# Altium footprint library IC_SMD_BGA.PCBLIB: 109 footprints (part 5 of 14)
Each footprint in its own frame and in the unit in brackets; x right, y up, seen from the top. Pads: shape width x height; smd on the part's side, far side on the other; paste and mask are expansions set on the pad; w line width, h text height; cw(c..) or ccw(c..) is an arc to the next point about the centre after c.
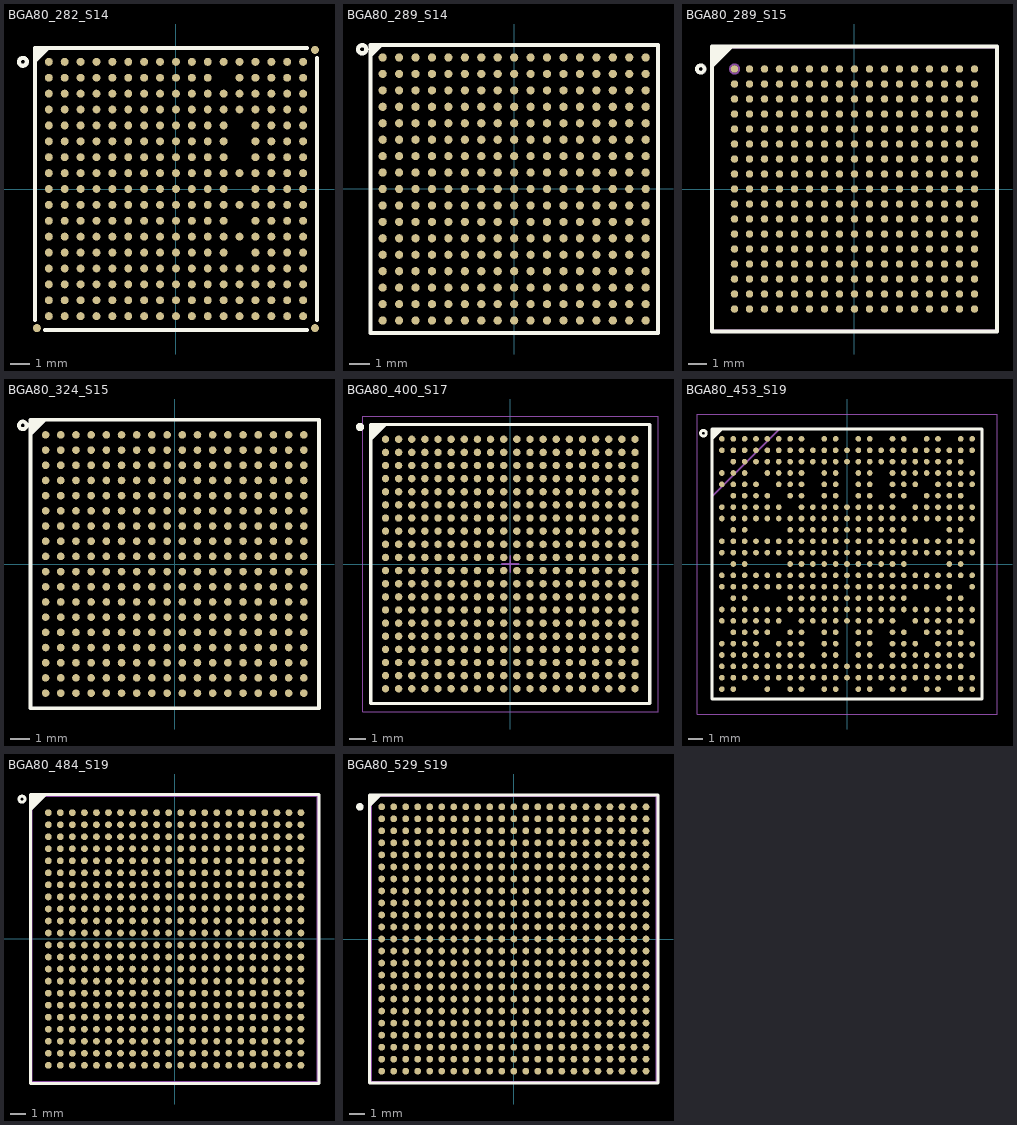
[diagram p4: the footprints below, top view; thin cyan lines are the x and y axes]

## BGA80_282_S14 [mm] "TFBGA282, 0.8mm pitch, 14x14x1.3mm"
height 1.3
pads (285):
  rrect100% 0.4x0.4 smd paste+0 mask+0.075: A1(-6.4,6.4) A2(-5.6,6.4) A3(-4.8,6.4) A4(-4,6.4) A5(-3.2,6.4) A6(-2.4,6.4) A7(-1.6,6.4) A8(-0.8,6.4) A9(0,6.4) A10(0.8,6.4) A11(1.6,6.4) A12(2.4,6.4) A13(3.2,6.4) A14(4,6.4) A15(4.8,6.4) A16(5.6,6.4) A17(6.4,6.4) B1(-6.4,5.6) B2(-5.6,5.6) B3(-4.8,5.6) B4(-4,5.6) B5(-3.2,5.6) B6(-2.4,5.6) B7(-1.6,5.6) B8(-0.8,5.6) B9(0,5.6) B10(0.8,5.6) B11(1.6,5.6) B13(3.2,5.6) B14(4,5.6) B15(4.8,5.6) B16(5.6,5.6) B17(6.4,5.6) C1(-6.4,4.8) C2(-5.6,4.8) C3(-4.8,4.8) C4(-4,4.8) C5(-3.2,4.8) C6(-2.4,4.8) C7(-1.6,4.8) C8(-0.8,4.8) C9(0,4.8) C10(0.8,4.8) C11(1.6,4.8) C12(2.4,4.8) C13(3.2,4.8) C14(4,4.8) C15(4.8,4.8) C16(5.6,4.8) C17(6.4,4.8) D1(-6.4,4) D2(-5.6,4) D3(-4.8,4) D4(-4,4) D5(-3.2,4) D6(-2.4,4) D7(-1.6,4) D8(-0.8,4) D9(0,4) D10(0.8,4) D11(1.6,4) D12(2.4,4) D13(3.2,4) D14(4,4) D15(4.8,4) D16(5.6,4) D17(6.4,4) E1(-6.4,3.2) E2(-5.6,3.2) E3(-4.8,3.2) E4(-4,3.2) E5(-3.2,3.2) E6(-2.4,3.2) E7(-1.6,3.2) E8(-0.8,3.2) E9(0,3.2) E10(0.8,3.2) E11(1.6,3.2) E12(2.4,3.2) E14(4,3.2) E15(4.8,3.2) E16(5.6,3.2) E17(6.4,3.2) F1(-6.4,2.4) F2(-5.6,2.4) F3(-4.8,2.4) F4(-4,2.4) F5(-3.2,2.4) F6(-2.4,2.4) F7(-1.6,2.4) F8(-0.8,2.4) F9(0,2.4) F10(0.8,2.4) F11(1.6,2.4) F12(2.4,2.4) F14(4,2.4) F15(4.8,2.4) F16(5.6,2.4) F17(6.4,2.4) G1(-6.4,1.6) G2(-5.6,1.6) G3(-4.8,1.6) G4(-4,1.6) G5(-3.2,1.6) G6(-2.4,1.6) G7(-1.6,1.6) G8(-0.8,1.6) G9(0,1.6) G10(0.8,1.6) G11(1.6,1.6) G12(2.4,1.6) G14(4,1.6) G15(4.8,1.6) G16(5.6,1.6) G17(6.4,1.6) H1(-6.4,0.8) H2(-5.6,0.8) H3(-4.8,0.8) H4(-4,0.8) H5(-3.2,0.8) H6(-2.4,0.8) H7(-1.6,0.8) H8(-0.8,0.8) H9(0,0.8) H10(0.8,0.8) H11(1.6,0.8) H12(2.4,0.8) H13(3.2,0.8) H14(4,0.8) H15(4.8,0.8) H16(5.6,0.8) H17(6.4,0.8) J1(-6.4,0) J2(-5.6,0) J3(-4.8,0) J4(-4,0) J5(-3.2,0) J6(-2.4,0) J7(-1.6,0) J8(-0.8,0) J9(0,0) J10(0.8,0) J11(1.6,0) J12(2.4,0) J14(4,0) J15(4.8,0) J16(5.6,0) J17(6.4,0) K1(-6.4,-0.8) K2(-5.6,-0.8) K3(-4.8,-0.8) K4(-4,-0.8) K5(-3.2,-0.8) K6(-2.4,-0.8) K7(-1.6,-0.8) K8(-0.8,-0.8) K9(0,-0.8) K10(0.8,-0.8) K11(1.6,-0.8) K12(2.4,-0.8) K13(3.2,-0.8) K14(4,-0.8) K15(4.8,-0.8) K16(5.6,-0.8) K17(6.4,-0.8) L1(-6.4,-1.6) L2(-5.6,-1.6) L3(-4.8,-1.6) L4(-4,-1.6) L5(-3.2,-1.6) L6(-2.4,-1.6) L7(-1.6,-1.6) L8(-0.8,-1.6) L9(0,-1.6) L10(0.8,-1.6) L11(1.6,-1.6) L12(2.4,-1.6) L14(4,-1.6) L15(4.8,-1.6) L16(5.6,-1.6) L17(6.4,-1.6) M1(-6.4,-2.4) M2(-5.6,-2.4) M3(-4.8,-2.4) M4(-4,-2.4) M5(-3.2,-2.4) M6(-2.4,-2.4) M7(-1.6,-2.4) M8(-0.8,-2.4) M9(0,-2.4) M10(0.8,-2.4) M11(1.6,-2.4) M12(2.4,-2.4) M13(3.2,-2.4) M14(4,-2.4) M15(4.8,-2.4) M16(5.6,-2.4) M17(6.4,-2.4) N1(-6.4,-3.2) N2(-5.6,-3.2) N3(-4.8,-3.2) N4(-4,-3.2) N5(-3.2,-3.2) N6(-2.4,-3.2) N7(-1.6,-3.2) N8(-0.8,-3.2) N9(0,-3.2) N10(0.8,-3.2) N11(1.6,-3.2) N12(2.4,-3.2) N14(4,-3.2) N15(4.8,-3.2) N16(5.6,-3.2) N17(6.4,-3.2) P1(-6.4,-4) P2(-5.6,-4) P3(-4.8,-4) P4(-4,-4) P5(-3.2,-4) P6(-2.4,-4) P7(-1.6,-4) P8(-0.8,-4) P9(0,-4) P10(0.8,-4) P11(1.6,-4) P12(2.4,-4) P13(3.2,-4) P14(4,-4) P15(4.8,-4) P16(5.6,-4) P17(6.4,-4) R1(-6.4,-4.8) R2(-5.6,-4.8) R3(-4.8,-4.8) R4(-4,-4.8) R5(-3.2,-4.8) R6(-2.4,-4.8) R7(-1.6,-4.8) R8(-0.8,-4.8) R9(0,-4.8) R10(0.8,-4.8) R11(1.6,-4.8) R12(2.4,-4.8) R13(3.2,-4.8) R14(4,-4.8) R15(4.8,-4.8) R16(5.6,-4.8) R17(6.4,-4.8) T1(-6.4,-5.6) T2(-5.6,-5.6) T3(-4.8,-5.6) T4(-4,-5.6) T5(-3.2,-5.6) T6(-2.4,-5.6) T7(-1.6,-5.6) T8(-0.8,-5.6) T9(0,-5.6) T10(0.8,-5.6) T11(1.6,-5.6) T12(2.4,-5.6) T13(3.2,-5.6) T14(4,-5.6) T15(4.8,-5.6) T16(5.6,-5.6) T17(6.4,-5.6) U1(-6.4,-6.4) U2(-5.6,-6.4) U3(-4.8,-6.4) U4(-4,-6.4) U5(-3.2,-6.4) U6(-2.4,-6.4) U7(-1.6,-6.4) U8(-0.8,-6.4) U9(0,-6.4) U10(0.8,-6.4) U11(1.6,-6.4) U12(2.4,-6.4) U13(3.2,-6.4) U14(4,-6.4) U15(4.8,-6.4) U16(5.6,-6.4) U17(6.4,-6.4) ""(-7,-7) ""(7,-7) ""(7,7)
TopOverlay:
  circle w0.2: c-7.7,6.4 r0.2
  region: -7.1,7.1 -6.3,7.1 -7.1,6.3
  lines w0.2: -7.1,-6.6 -7.1,7.1 6.6,7.1 ; -6.6,-7.1 6.6,-7.1 ; 7.1,-6.6 7.1,6.6
TopPaste:
  drawing of 282 lines, arcs and shapes, not listed
3D body: height 1.3, standoff 0.25, extent -7,-7 7,7

## BGA80_289_S14 [mm] "BGA, 289-Leads, Body 14.00x14.00mmx1.20mm, Pitch 0.80mm"
height 1.2
pads (289):
  round 0.4 smd: A1(-6.4,6.4) A2(-5.6,6.4) A3(-4.8,6.4) A4(-4,6.4) A5(-3.2,6.4) A6(-2.4,6.4) A7(-1.6,6.4) A8(-0.8,6.4) A9(0,6.4) A10(0.8,6.4) A11(1.6,6.4) A12(2.4,6.4) A13(3.2,6.4) A14(4,6.4) A15(4.8,6.4) A16(5.6,6.4) A17(6.4,6.4) B1(-6.4,5.6) B2(-5.6,5.6) B3(-4.8,5.6) B4(-4,5.6) B5(-3.2,5.6) B6(-2.4,5.6) B7(-1.6,5.6) B8(-0.8,5.6) B9(0,5.6) B10(0.8,5.6) B11(1.6,5.6) B12(2.4,5.6) B13(3.2,5.6) B14(4,5.6) B15(4.8,5.6) B16(5.6,5.6) B17(6.4,5.6) C1(-6.4,4.8) C2(-5.6,4.8) C3(-4.8,4.8) C4(-4,4.8) C5(-3.2,4.8) C6(-2.4,4.8) C7(-1.6,4.8) C8(-0.8,4.8) C9(0,4.8) C10(0.8,4.8) C11(1.6,4.8) C12(2.4,4.8) C13(3.2,4.8) C14(4,4.8) C15(4.8,4.8) C16(5.6,4.8) C17(6.4,4.8) D1(-6.4,4) D2(-5.6,4) D3(-4.8,4) D4(-4,4) D5(-3.2,4) D6(-2.4,4) D7(-1.6,4) D8(-0.8,4) D9(0,4) D10(0.8,4) D11(1.6,4) D12(2.4,4) D13(3.2,4) D14(4,4) D15(4.8,4) D16(5.6,4) D17(6.4,4) E1(-6.4,3.2) E2(-5.6,3.2) E3(-4.8,3.2) E4(-4,3.2) E5(-3.2,3.2) E6(-2.4,3.2) E7(-1.6,3.2) E8(-0.8,3.2) E9(0,3.2) E10(0.8,3.2) E11(1.6,3.2) E12(2.4,3.2) E13(3.2,3.2) E14(4,3.2) E15(4.8,3.2) E16(5.6,3.2) E17(6.4,3.2) F1(-6.4,2.4) F2(-5.6,2.4) F3(-4.8,2.4) F4(-4,2.4) F5(-3.2,2.4) F6(-2.4,2.4) F7(-1.6,2.4) F8(-0.8,2.4) F9(0,2.4) F10(0.8,2.4) F11(1.6,2.4) F12(2.4,2.4) F13(3.2,2.4) F14(4,2.4) F15(4.8,2.4) F16(5.6,2.4) F17(6.4,2.4) G1(-6.4,1.6) G2(-5.6,1.6) G3(-4.8,1.6) G4(-4,1.6) G5(-3.2,1.6) G6(-2.4,1.6) G7(-1.6,1.6) G8(-0.8,1.6) G9(0,1.6) G10(0.8,1.6) G11(1.6,1.6) G12(2.4,1.6) G13(3.2,1.6) G14(4,1.6) G15(4.8,1.6) G16(5.6,1.6) G17(6.4,1.6) H1(-6.4,0.8) H2(-5.6,0.8) H3(-4.8,0.8) H4(-4,0.8) H5(-3.2,0.8) H6(-2.4,0.8) H7(-1.6,0.8) H8(-0.8,0.8) H9(0,0.8) H10(0.8,0.8) H11(1.6,0.8) H12(2.4,0.8) H13(3.2,0.8) H14(4,0.8) H15(4.8,0.8) H16(5.6,0.8) H17(6.4,0.8) J1(-6.4,0) J2(-5.6,0) J3(-4.8,0) J4(-4,0) J5(-3.2,0) J6(-2.4,0) J7(-1.6,0) J8(-0.8,0) J9(0,0) J10(0.8,0) J11(1.6,0) J12(2.4,0) J13(3.2,0) J14(4,0) J15(4.8,0) J16(5.6,0) J17(6.4,0) K1(-6.4,-0.8) K2(-5.6,-0.8) K3(-4.8,-0.8) K4(-4,-0.8) K5(-3.2,-0.8) K6(-2.4,-0.8) K7(-1.6,-0.8) K8(-0.8,-0.8) K9(0,-0.8) K10(0.8,-0.8) K11(1.6,-0.8) K12(2.4,-0.8) K13(3.2,-0.8) K14(4,-0.8) K15(4.8,-0.8) K16(5.6,-0.8) K17(6.4,-0.8) L1(-6.4,-1.6) L2(-5.6,-1.6) L3(-4.8,-1.6) L4(-4,-1.6) L5(-3.2,-1.6) L6(-2.4,-1.6) L7(-1.6,-1.6) L8(-0.8,-1.6) L9(0,-1.6) L10(0.8,-1.6) L11(1.6,-1.6) L12(2.4,-1.6) L13(3.2,-1.6) L14(4,-1.6) L15(4.8,-1.6) L16(5.6,-1.6) L17(6.4,-1.6) M1(-6.4,-2.4) M2(-5.6,-2.4) M3(-4.8,-2.4) M4(-4,-2.4) M5(-3.2,-2.4) M6(-2.4,-2.4) M7(-1.6,-2.4) M8(-0.8,-2.4) M9(0,-2.4) M10(0.8,-2.4) M11(1.6,-2.4) M12(2.4,-2.4) M13(3.2,-2.4) M14(4,-2.4) M15(4.8,-2.4) M16(5.6,-2.4) M17(6.4,-2.4) N1(-6.4,-3.2) N2(-5.6,-3.2) N3(-4.8,-3.2) N4(-4,-3.2) N5(-3.2,-3.2) N6(-2.4,-3.2) N7(-1.6,-3.2) N8(-0.8,-3.2) N9(0,-3.2) N10(0.8,-3.2) N11(1.6,-3.2) N12(2.4,-3.2) N13(3.2,-3.2) N14(4,-3.2) N15(4.8,-3.2) N16(5.6,-3.2) N17(6.4,-3.2) P1(-6.4,-4) P2(-5.6,-4) P3(-4.8,-4) P4(-4,-4) P5(-3.2,-4) P6(-2.4,-4) P7(-1.6,-4) P8(-0.8,-4) P9(0,-4) P10(0.8,-4) P11(1.6,-4) P12(2.4,-4) P13(3.2,-4) P14(4,-4) P15(4.8,-4) P16(5.6,-4) P17(6.4,-4) R1(-6.4,-4.8) R2(-5.6,-4.8) R3(-4.8,-4.8) R4(-4,-4.8) R5(-3.2,-4.8) R6(-2.4,-4.8) R7(-1.6,-4.8) R8(-0.8,-4.8) R9(0,-4.8) R10(0.8,-4.8) R11(1.6,-4.8) R12(2.4,-4.8) R13(3.2,-4.8) R14(4,-4.8) R15(4.8,-4.8) R16(5.6,-4.8) R17(6.4,-4.8) T1(-6.4,-5.6) T2(-5.6,-5.6) T3(-4.8,-5.6) T4(-4,-5.6) T5(-3.2,-5.6) T6(-2.4,-5.6) T7(-1.6,-5.6) T8(-0.8,-5.6) T9(0,-5.6) T10(0.8,-5.6) T11(1.6,-5.6) T12(2.4,-5.6) T13(3.2,-5.6) T14(4,-5.6) T15(4.8,-5.6) T16(5.6,-5.6) T17(6.4,-5.6) U1(-6.4,-6.4) U2(-5.6,-6.4) U3(-4.8,-6.4) U4(-4,-6.4) U5(-3.2,-6.4) U6(-2.4,-6.4) U7(-1.6,-6.4) U8(-0.8,-6.4) U9(0,-6.4) U10(0.8,-6.4) U11(1.6,-6.4) U12(2.4,-6.4) U13(3.2,-6.4) U14(4,-6.4) U15(4.8,-6.4) U16(5.6,-6.4) U17(6.4,-6.4)
TopOverlay:
  circle w0.2: c-7.4,6.8 r0.2
  region: -6.5,7 -7,6.5 -7,7
  lines w0.2: -7,6.5 -6.528,6.972 ; -7,-7 7,-7 7,7 -7,7 -7,-7
Mechanical13:
  lines w0.1: -7,-7 7,-7 7,7 -7,7 -7,-7
3D body: height 1.2, standoff 0.1, extent -7,-7 7,7

## BGA80_289_S15 [mm] "nFBGA ZBV ZAV, N289-Leads, Body 15x15mm, Pitch 0.8mm"
height 1.8
pads (289):
  round 0.4 smd mask+0.05: A1(-6.4,6.4) A2(-5.6,6.4) A3(-4.8,6.4) A4(-4,6.4) A5(-3.2,6.4) A6(-2.4,6.4) A7(-1.6,6.4) A8(-0.8,6.4) A9(0,6.4) A10(0.8,6.4) A11(1.6,6.4) A12(2.4,6.4) A13(3.2,6.4) A14(4,6.4) A15(4.8,6.4) A16(5.6,6.4) A17(6.4,6.4) B1(-6.4,5.6) B2(-5.6,5.6) B3(-4.8,5.6) B4(-4,5.6) B5(-3.2,5.6) B6(-2.4,5.6) B7(-1.6,5.6) B8(-0.8,5.6) B9(0,5.6) B10(0.8,5.6) B11(1.6,5.6) B12(2.4,5.6) B13(3.2,5.6) B14(4,5.6) B15(4.8,5.6) B16(5.6,5.6) B17(6.4,5.6) C1(-6.4,4.8) C2(-5.6,4.8) C3(-4.8,4.8) C4(-4,4.8) C5(-3.2,4.8) C6(-2.4,4.8) C7(-1.6,4.8) C8(-0.8,4.8) C9(0,4.8) C10(0.8,4.8) C11(1.6,4.8) C12(2.4,4.8) C13(3.2,4.8) C14(4,4.8) C15(4.8,4.8) C16(5.6,4.8) C17(6.4,4.8) D1(-6.4,4) D2(-5.6,4) D3(-4.8,4) D4(-4,4) D5(-3.2,4) D6(-2.4,4) D7(-1.6,4) D8(-0.8,4) D9(0,4) D10(0.8,4) D11(1.6,4) D12(2.4,4) D13(3.2,4) D14(4,4) D15(4.8,4) D16(5.6,4) D17(6.4,4) E1(-6.4,3.2) E2(-5.6,3.2) E3(-4.8,3.2) E4(-4,3.2) E5(-3.2,3.2) E6(-2.4,3.2) E7(-1.6,3.2) E8(-0.8,3.2) E9(0,3.2) E10(0.8,3.2) E11(1.6,3.2) E12(2.4,3.2) E13(3.2,3.2) E14(4,3.2) E15(4.8,3.2) E16(5.6,3.2) E17(6.4,3.2) F1(-6.4,2.4) F2(-5.6,2.4) F3(-4.8,2.4) F4(-4,2.4) F5(-3.2,2.4) F6(-2.4,2.4) F7(-1.6,2.4) F8(-0.8,2.4) F9(0,2.4) F10(0.8,2.4) F11(1.6,2.4) F12(2.4,2.4) F13(3.2,2.4) F14(4,2.4) F15(4.8,2.4) F16(5.6,2.4) F17(6.4,2.4) G1(-6.4,1.6) G2(-5.6,1.6) G3(-4.8,1.6) G4(-4,1.6) G5(-3.2,1.6) G6(-2.4,1.6) G7(-1.6,1.6) G8(-0.8,1.6) G9(0,1.6) G10(0.8,1.6) G11(1.6,1.6) G12(2.4,1.6) G13(3.2,1.6) G14(4,1.6) G15(4.8,1.6) G16(5.6,1.6) G17(6.4,1.6) H1(-6.4,0.8) H2(-5.6,0.8) H3(-4.8,0.8) H4(-4,0.8) H5(-3.2,0.8) H6(-2.4,0.8) H7(-1.6,0.8) H8(-0.8,0.8) H9(0,0.8) H10(0.8,0.8) H11(1.6,0.8) H12(2.4,0.8) H13(3.2,0.8) H14(4,0.8) H15(4.8,0.8) H16(5.6,0.8) H17(6.4,0.8) J1(-6.4,0) J2(-5.6,0) J3(-4.8,0) J4(-4,0) J5(-3.2,0) J6(-2.4,0) J7(-1.6,0) J8(-0.8,0) J9(0,0) J10(0.8,0) J11(1.6,0) J12(2.4,0) J13(3.2,0) J14(4,0) J15(4.8,0) J16(5.6,0) J17(6.4,0) K1(-6.4,-0.8) K2(-5.6,-0.8) K3(-4.8,-0.8) K4(-4,-0.8) K5(-3.2,-0.8) K6(-2.4,-0.8) K7(-1.6,-0.8) K8(-0.8,-0.8) K9(0,-0.8) K10(0.8,-0.8) K11(1.6,-0.8) K12(2.4,-0.8) K13(3.2,-0.8) K14(4,-0.8) K15(4.8,-0.8) K16(5.6,-0.8) K17(6.4,-0.8) L1(-6.4,-1.6) L2(-5.6,-1.6) L3(-4.8,-1.6) L4(-4,-1.6) L5(-3.2,-1.6) L6(-2.4,-1.6) L7(-1.6,-1.6) L8(-0.8,-1.6) L9(0,-1.6) L10(0.8,-1.6) L11(1.6,-1.6) L12(2.4,-1.6) L13(3.2,-1.6) L14(4,-1.6) L15(4.8,-1.6) L16(5.6,-1.6) L17(6.4,-1.6) M1(-6.4,-2.4) M2(-5.6,-2.4) M3(-4.8,-2.4) M4(-4,-2.4) M5(-3.2,-2.4) M6(-2.4,-2.4) M7(-1.6,-2.4) M8(-0.8,-2.4) M9(0,-2.4) M10(0.8,-2.4) M11(1.6,-2.4) M12(2.4,-2.4) M13(3.2,-2.4) M14(4,-2.4) M15(4.8,-2.4) M16(5.6,-2.4) M17(6.4,-2.4) N1(-6.4,-3.2) N2(-5.6,-3.2) N3(-4.8,-3.2) N4(-4,-3.2) N5(-3.2,-3.2) N6(-2.4,-3.2) N7(-1.6,-3.2) N8(-0.8,-3.2) N9(0,-3.2) N10(0.8,-3.2) N11(1.6,-3.2) N12(2.4,-3.2) N13(3.2,-3.2) N14(4,-3.2) N15(4.8,-3.2) N16(5.6,-3.2) N17(6.4,-3.2) P1(-6.4,-4) P2(-5.6,-4) P3(-4.8,-4) P4(-4,-4) P5(-3.2,-4) P6(-2.4,-4) P7(-1.6,-4) P8(-0.8,-4) P9(0,-4) P10(0.8,-4) P11(1.6,-4) P12(2.4,-4) P13(3.2,-4) P14(4,-4) P15(4.8,-4) P16(5.6,-4) P17(6.4,-4) R1(-6.4,-4.8) R2(-5.6,-4.8) R3(-4.8,-4.8) R4(-4,-4.8) R5(-3.2,-4.8) R6(-2.4,-4.8) R7(-1.6,-4.8) R8(-0.8,-4.8) R9(0,-4.8) R10(0.8,-4.8) R11(1.6,-4.8) R12(2.4,-4.8) R13(3.2,-4.8) R14(4,-4.8) R15(4.8,-4.8) R16(5.6,-4.8) R17(6.4,-4.8) T1(-6.4,-5.6) T2(-5.6,-5.6) T3(-4.8,-5.6) T4(-4,-5.6) T5(-3.2,-5.6) T6(-2.4,-5.6) T7(-1.6,-5.6) T8(-0.8,-5.6) T9(0,-5.6) T10(0.8,-5.6) T11(1.6,-5.6) T12(2.4,-5.6) T13(3.2,-5.6) T14(4,-5.6) T15(4.8,-5.6) T16(5.6,-5.6) T17(6.4,-5.6) U1(-6.4,-6.4) U2(-5.6,-6.4) U3(-4.8,-6.4) U4(-4,-6.4) U5(-3.2,-6.4) U6(-2.4,-6.4) U7(-1.6,-6.4) U8(-0.8,-6.4) U9(0,-6.4) U10(0.8,-6.4) U11(1.6,-6.4) U12(2.4,-6.4) U13(3.2,-6.4) U14(4,-6.4) U15(4.8,-6.4) U16(5.6,-6.4) U17(6.4,-6.4)
TopOverlay:
  circle w0.2: c-8.2,6.4 r0.2
  region: -7.6,7.6 -6.4,7.6 -7.6,6.4
  lines w0.2: -7.6,-7.6 -7.6,7.6 7.6,7.6 7.6,-7.6 -7.6,-7.6
Mechanical13:
  circle w0.1: c-6.4,6.4 r0.25
  lines w0.1: -7.55,-7.55 7.55,-7.55 7.55,7.55 -7.55,7.55 -7.55,-7.55
3D body: height 1.81, standoff 1.5, extent -6.649,6.151 -6.151,6.649
3D body: height 1.8, standoff 0.35, extent -7.55,-7.55 7.55,7.55

## BGA80_324_S15 [mm] "BGA, 324-Leads, CSG324, Body 15x15mm, Pitch 0.8mm, AM33XX"
pads (324):
  round 0.4 smd: A1(-6.8,6.8) A2(-6,6.8) A3(-5.2,6.8) A4(-4.4,6.8) A5(-3.6,6.8) A6(-2.8,6.8) A7(-2,6.8) A8(-1.2,6.8) A9(-0.4,6.8) A10(0.4,6.8) A11(1.2,6.8) A12(2,6.8) A13(2.8,6.8) A14(3.6,6.8) A15(4.4,6.8) A16(5.2,6.8) A17(6,6.8) A18(6.8,6.8) B1(-6.8,6) B2(-6,6) B3(-5.2,6) B4(-4.4,6) B5(-3.6,6) B6(-2.8,6) B7(-2,6) B8(-1.2,6) B9(-0.4,6) B10(0.4,6) B11(1.2,6) B12(2,6) B13(2.8,6) B14(3.6,6) B15(4.4,6) B16(5.2,6) B17(6,6) B18(6.8,6) C1(-6.8,5.2) C2(-6,5.2) C3(-5.2,5.2) C4(-4.4,5.2) C5(-3.6,5.2) C6(-2.8,5.2) C7(-2,5.2) C8(-1.2,5.2) C9(-0.4,5.2) C10(0.4,5.2) C11(1.2,5.2) C12(2,5.2) C13(2.8,5.2) C14(3.6,5.2) C15(4.4,5.2) C16(5.2,5.2) C17(6,5.2) C18(6.8,5.2) D1(-6.8,4.4) D2(-6,4.4) D3(-5.2,4.4) D4(-4.4,4.4) D5(-3.6,4.4) D6(-2.8,4.4) D7(-2,4.4) D8(-1.2,4.4) D9(-0.4,4.4) D10(0.4,4.4) D11(1.2,4.4) D12(2,4.4) D13(2.8,4.4) D14(3.6,4.4) D15(4.4,4.4) D16(5.2,4.4) D17(6,4.4) D18(6.8,4.4) E1(-6.8,3.6) E2(-6,3.6) E3(-5.2,3.6) E4(-4.4,3.6) E5(-3.6,3.6) E6(-2.8,3.6) E7(-2,3.6) E8(-1.2,3.6) E9(-0.4,3.6) E10(0.4,3.6) E11(1.2,3.6) E12(2,3.6) E13(2.8,3.6) E14(3.6,3.6) E15(4.4,3.6) E16(5.2,3.6) E17(6,3.6) E18(6.8,3.6) F1(-6.8,2.8) F2(-6,2.8) F3(-5.2,2.8) F4(-4.4,2.8) F5(-3.6,2.8) F6(-2.8,2.8) F7(-2,2.8) F8(-1.2,2.8) F9(-0.4,2.8) F10(0.4,2.8) F11(1.2,2.8) F12(2,2.8) F13(2.8,2.8) F14(3.6,2.8) F15(4.4,2.8) F16(5.2,2.8) F17(6,2.8) F18(6.8,2.8) G1(-6.8,2) G2(-6,2) G3(-5.2,2) G4(-4.4,2) G5(-3.6,2) G6(-2.8,2) G7(-2,2) G8(-1.2,2) G9(-0.4,2) G10(0.4,2) G11(1.2,2) G12(2,2) G13(2.8,2) G14(3.6,2) G15(4.4,2) G16(5.2,2) G17(6,2) G18(6.8,2) H1(-6.8,1.2) H2(-6,1.2) H3(-5.2,1.2) H4(-4.4,1.2) H5(-3.6,1.2) H6(-2.8,1.2) H7(-2,1.2) H8(-1.2,1.2) H9(-0.4,1.2) H10(0.4,1.2) H11(1.2,1.2) H12(2,1.2) H13(2.8,1.2) H14(3.6,1.2) H15(4.4,1.2) H16(5.2,1.2) H17(6,1.2) H18(6.8,1.2) J1(-6.8,0.4) J2(-6,0.4) J3(-5.2,0.4) J4(-4.4,0.4) J5(-3.6,0.4) J6(-2.8,0.4) J7(-2,0.4) J8(-1.2,0.4) J9(-0.4,0.4) J10(0.4,0.4) J11(1.2,0.4) J12(2,0.4) J13(2.8,0.4) J14(3.6,0.4) J15(4.4,0.4) J16(5.2,0.4) J17(6,0.4) J18(6.8,0.4) K1(-6.8,-0.4) K2(-6,-0.4) K3(-5.2,-0.4) K4(-4.4,-0.4) K5(-3.6,-0.4) K6(-2.8,-0.4) K7(-2,-0.4) K8(-1.2,-0.4) K9(-0.4,-0.4) K10(0.4,-0.4) K11(1.2,-0.4) K12(2,-0.4) K13(2.8,-0.4) K14(3.6,-0.4) K15(4.4,-0.4) K16(5.2,-0.4) K17(6,-0.4) K18(6.8,-0.4) L1(-6.8,-1.2) L2(-6,-1.2) L3(-5.2,-1.2) L4(-4.4,-1.2) L5(-3.6,-1.2) L6(-2.8,-1.2) L7(-2,-1.2) L8(-1.2,-1.2) L9(-0.4,-1.2) L10(0.4,-1.2) L11(1.2,-1.2) L12(2,-1.2) L13(2.8,-1.2) L14(3.6,-1.2) L15(4.4,-1.2) L16(5.2,-1.2) L17(6,-1.2) L18(6.8,-1.2) M1(-6.8,-2) M2(-6,-2) M3(-5.2,-2) M4(-4.4,-2) M5(-3.6,-2) M6(-2.8,-2) M7(-2,-2) M8(-1.2,-2) M9(-0.4,-2) M10(0.4,-2) M11(1.2,-2) M12(2,-2) M13(2.8,-2) M14(3.6,-2) M15(4.4,-2) M16(5.2,-2) M17(6,-2) M18(6.8,-2) N1(-6.8,-2.8) N2(-6,-2.8) N3(-5.2,-2.8) N4(-4.4,-2.8) N5(-3.6,-2.8) N6(-2.8,-2.8) N7(-2,-2.8) N8(-1.2,-2.8) N9(-0.4,-2.8) N10(0.4,-2.8) N11(1.2,-2.8) N12(2,-2.8) N13(2.8,-2.8) N14(3.6,-2.8) N15(4.4,-2.8) N16(5.2,-2.8) N17(6,-2.8) N18(6.8,-2.8) P1(-6.8,-3.6) P2(-6,-3.6) P3(-5.2,-3.6) P4(-4.4,-3.6) P5(-3.6,-3.6) P6(-2.8,-3.6) P7(-2,-3.6) P8(-1.2,-3.6) P9(-0.4,-3.6) P10(0.4,-3.6) P11(1.2,-3.6) P12(2,-3.6) P13(2.8,-3.6) P14(3.6,-3.6) P15(4.4,-3.6) P16(5.2,-3.6) P17(6,-3.6) P18(6.8,-3.6) R1(-6.8,-4.4) R2(-6,-4.4) R3(-5.2,-4.4) R4(-4.4,-4.4) R5(-3.6,-4.4) R6(-2.8,-4.4) R7(-2,-4.4) R8(-1.2,-4.4) R9(-0.4,-4.4) R10(0.4,-4.4) R11(1.2,-4.4) R12(2,-4.4) R13(2.8,-4.4) R14(3.6,-4.4) R15(4.4,-4.4) R16(5.2,-4.4) R17(6,-4.4) R18(6.8,-4.4) T1(-6.8,-5.2) T2(-6,-5.2) T3(-5.2,-5.2) T4(-4.4,-5.2) T5(-3.6,-5.2) T6(-2.8,-5.2) T7(-2,-5.2) T8(-1.2,-5.2) T9(-0.4,-5.2) T10(0.4,-5.2) T11(1.2,-5.2) T12(2,-5.2) T13(2.8,-5.2) T14(3.6,-5.2) T15(4.4,-5.2) T16(5.2,-5.2) T17(6,-5.2) T18(6.8,-5.2) U1(-6.8,-6) U2(-6,-6) U3(-5.2,-6) U4(-4.4,-6) U5(-3.6,-6) U6(-2.8,-6) U7(-2,-6) U8(-1.2,-6) U9(-0.4,-6) U10(0.4,-6) U11(1.2,-6) U12(2,-6) U13(2.8,-6) U14(3.6,-6) U15(4.4,-6) U16(5.2,-6) U17(6,-6) U18(6.8,-6) V1(-6.8,-6.8) V2(-6,-6.8) V3(-5.2,-6.8) V4(-4.4,-6.8) V5(-3.6,-6.8) V6(-2.8,-6.8) V7(-2,-6.8) V8(-1.2,-6.8) V9(-0.4,-6.8) V10(0.4,-6.8) V11(1.2,-6.8) V12(2,-6.8) V13(2.8,-6.8) V14(3.6,-6.8) V15(4.4,-6.8) V16(5.2,-6.8) V17(6,-6.8) V18(6.8,-6.8)
TopOverlay:
  circle w0.2: c-8,7.3 r0.2
  region: -7.6,7.6 -6.7,7.6 -7.6,6.7
  lines w0.2: -7.6,-7.6 -7.6,7.6 7.6,7.6 7.6,-7.6 -7.6,-7.6
3D body: height 1.2, standoff 0.1, extent -7.5,-7.5 7.5,7.5

## BGA80_400_S17 [mm] "BGA, CLG400, 400-Balls, Body 17x17mm, Pitch 0.8mm"
height 1.6
pads (400):
  round 0.45 smd mask+0.075: A1(-7.6,7.6) A2(-6.8,7.6) A3(-6,7.6) A4(-5.2,7.6) A5(-4.4,7.6) A6(-3.6,7.6) A7(-2.8,7.6) A8(-2,7.6) A9(-1.2,7.6) A10(-0.4,7.6) A11(0.4,7.6) A12(1.2,7.6) A13(2,7.6) A14(2.8,7.6) A15(3.6,7.6) A16(4.4,7.6) A17(5.2,7.6) A18(6,7.6) A19(6.8,7.6) A20(7.6,7.6) B1(-7.6,6.8) B2(-6.8,6.8) B3(-6,6.8) B4(-5.2,6.8) B5(-4.4,6.8) B6(-3.6,6.8) B7(-2.8,6.8) B8(-2,6.8) B9(-1.2,6.8) B10(-0.4,6.8) B11(0.4,6.8) B12(1.2,6.8) B13(2,6.8) B14(2.8,6.8) B15(3.6,6.8) B16(4.4,6.8) B17(5.2,6.8) B18(6,6.8) B19(6.8,6.8) B20(7.6,6.8) C1(-7.6,6) C2(-6.8,6) C3(-6,6) C4(-5.2,6) C5(-4.4,6) C6(-3.6,6) C7(-2.8,6) C8(-2,6) C9(-1.2,6) C10(-0.4,6) C11(0.4,6) C12(1.2,6) C13(2,6) C14(2.8,6) C15(3.6,6) C16(4.4,6) C17(5.2,6) C18(6,6) C19(6.8,6) C20(7.6,6) D1(-7.6,5.2) D2(-6.8,5.2) D3(-6,5.2) D4(-5.2,5.2) D5(-4.4,5.2) D6(-3.6,5.2) D7(-2.8,5.2) D8(-2,5.2) D9(-1.2,5.2) D10(-0.4,5.2) D11(0.4,5.2) D12(1.2,5.2) D13(2,5.2) D14(2.8,5.2) D15(3.6,5.2) D16(4.4,5.2) D17(5.2,5.2) D18(6,5.2) D19(6.8,5.2) D20(7.6,5.2) E1(-7.6,4.4) E2(-6.8,4.4) E3(-6,4.4) E4(-5.2,4.4) E5(-4.4,4.4) E6(-3.6,4.4) E7(-2.8,4.4) E8(-2,4.4) E9(-1.2,4.4) E10(-0.4,4.4) E11(0.4,4.4) E12(1.2,4.4) E13(2,4.4) E14(2.8,4.4) E15(3.6,4.4) E16(4.4,4.4) E17(5.2,4.4) E18(6,4.4) E19(6.8,4.4) E20(7.6,4.4) F1(-7.6,3.6) F2(-6.8,3.6) F3(-6,3.6) F4(-5.2,3.6) F5(-4.4,3.6) F6(-3.6,3.6) F7(-2.8,3.6) F8(-2,3.6) F9(-1.2,3.6) F10(-0.4,3.6) F11(0.4,3.6) F12(1.2,3.6) F13(2,3.6) F14(2.8,3.6) F15(3.6,3.6) F16(4.4,3.6) F17(5.2,3.6) F18(6,3.6) F19(6.8,3.6) F20(7.6,3.6) G1(-7.6,2.8) G2(-6.8,2.8) G3(-6,2.8) G4(-5.2,2.8) G5(-4.4,2.8) G6(-3.6,2.8) G7(-2.8,2.8) G8(-2,2.8) G9(-1.2,2.8) G10(-0.4,2.8) G11(0.4,2.8) G12(1.2,2.8) G13(2,2.8) G14(2.8,2.8) G15(3.6,2.8) G16(4.4,2.8) G17(5.2,2.8) G18(6,2.8) G19(6.8,2.8) G20(7.6,2.8) H1(-7.6,2) H2(-6.8,2) H3(-6,2) H4(-5.2,2) H5(-4.4,2) H6(-3.6,2) H7(-2.8,2) H8(-2,2) H9(-1.2,2) H10(-0.4,2) H11(0.4,2) H12(1.2,2) H13(2,2) H14(2.8,2) H15(3.6,2) H16(4.4,2) H17(5.2,2) H18(6,2) H19(6.8,2) H20(7.6,2) J1(-7.6,1.2) J2(-6.8,1.2) J3(-6,1.2) J4(-5.2,1.2) J5(-4.4,1.2) J6(-3.6,1.2) J7(-2.8,1.2) J8(-2,1.2) J9(-1.2,1.2) J10(-0.4,1.2) J11(0.4,1.2) J12(1.2,1.2) J13(2,1.2) J14(2.8,1.2) J15(3.6,1.2) J16(4.4,1.2) J17(5.2,1.2) J18(6,1.2) J19(6.8,1.2) J20(7.6,1.2) K1(-7.6,0.4) K2(-6.8,0.4) K3(-6,0.4) K4(-5.2,0.4) K5(-4.4,0.4) K6(-3.6,0.4) K7(-2.8,0.4) K8(-2,0.4) K9(-1.2,0.4) K10(-0.4,0.4) K11(0.4,0.4) K12(1.2,0.4) K13(2,0.4) K14(2.8,0.4) K15(3.6,0.4) K16(4.4,0.4) K17(5.2,0.4) K18(6,0.4) K19(6.8,0.4) K20(7.6,0.4) L1(-7.6,-0.4) L2(-6.8,-0.4) L3(-6,-0.4) L4(-5.2,-0.4) L5(-4.4,-0.4) L6(-3.6,-0.4) L7(-2.8,-0.4) L8(-2,-0.4) L9(-1.2,-0.4) L10(-0.4,-0.4) L11(0.4,-0.4) L12(1.2,-0.4) L13(2,-0.4) L14(2.8,-0.4) L15(3.6,-0.4) L16(4.4,-0.4) L17(5.2,-0.4) L18(6,-0.4) L19(6.8,-0.4) L20(7.6,-0.4) M1(-7.6,-1.2) M2(-6.8,-1.2) M3(-6,-1.2) M4(-5.2,-1.2) M5(-4.4,-1.2) M6(-3.6,-1.2) M7(-2.8,-1.2) M8(-2,-1.2) M9(-1.2,-1.2) M10(-0.4,-1.2) M11(0.4,-1.2) M12(1.2,-1.2) M13(2,-1.2) M14(2.8,-1.2) M15(3.6,-1.2) M16(4.4,-1.2) M17(5.2,-1.2) M18(6,-1.2) M19(6.8,-1.2) M20(7.6,-1.2) N1(-7.6,-2) N2(-6.8,-2) N3(-6,-2) N4(-5.2,-2) N5(-4.4,-2) N6(-3.6,-2) N7(-2.8,-2) N8(-2,-2) N9(-1.2,-2) N10(-0.4,-2) N11(0.4,-2) N12(1.2,-2) N13(2,-2) N14(2.8,-2) N15(3.6,-2) N16(4.4,-2) N17(5.2,-2) N18(6,-2) N19(6.8,-2) N20(7.6,-2) P1(-7.6,-2.8) P2(-6.8,-2.8) P3(-6,-2.8) P4(-5.2,-2.8) P5(-4.4,-2.8) P6(-3.6,-2.8) P7(-2.8,-2.8) P8(-2,-2.8) P9(-1.2,-2.8) P10(-0.4,-2.8) P11(0.4,-2.8) P12(1.2,-2.8) P13(2,-2.8) P14(2.8,-2.8) P15(3.6,-2.8) P16(4.4,-2.8) P17(5.2,-2.8) P18(6,-2.8) P19(6.8,-2.8) P20(7.6,-2.8) R1(-7.6,-3.6) R2(-6.8,-3.6) R3(-6,-3.6) R4(-5.2,-3.6) R5(-4.4,-3.6) R6(-3.6,-3.6) R7(-2.8,-3.6) R8(-2,-3.6) R9(-1.2,-3.6) R10(-0.4,-3.6) R11(0.4,-3.6) R12(1.2,-3.6) R13(2,-3.6) R14(2.8,-3.6) R15(3.6,-3.6) R16(4.4,-3.6) R17(5.2,-3.6) R18(6,-3.6) R19(6.8,-3.6) R20(7.6,-3.6) T1(-7.6,-4.4) T2(-6.8,-4.4) T3(-6,-4.4) T4(-5.2,-4.4) T5(-4.4,-4.4) T6(-3.6,-4.4) T7(-2.8,-4.4) T8(-2,-4.4) T9(-1.2,-4.4) T10(-0.4,-4.4) T11(0.4,-4.4) T12(1.2,-4.4) T13(2,-4.4) T14(2.8,-4.4) T15(3.6,-4.4) T16(4.4,-4.4) T17(5.2,-4.4) T18(6,-4.4) T19(6.8,-4.4) T20(7.6,-4.4) U1(-7.6,-5.2) U2(-6.8,-5.2) U3(-6,-5.2) U4(-5.2,-5.2) U5(-4.4,-5.2) U6(-3.6,-5.2) U7(-2.8,-5.2) U8(-2,-5.2) U9(-1.2,-5.2) U10(-0.4,-5.2) U11(0.4,-5.2) U12(1.2,-5.2) U13(2,-5.2) U14(2.8,-5.2) U15(3.6,-5.2) U16(4.4,-5.2) U17(5.2,-5.2) U18(6,-5.2) U19(6.8,-5.2) U20(7.6,-5.2) V1(-7.6,-6) V2(-6.8,-6) V3(-6,-6) V4(-5.2,-6) V5(-4.4,-6) V6(-3.6,-6) V7(-2.8,-6) V8(-2,-6) V9(-1.2,-6) V10(-0.4,-6) V11(0.4,-6) V12(1.2,-6) V13(2,-6) V14(2.8,-6) V15(3.6,-6) V16(4.4,-6) V17(5.2,-6) V18(6,-6) V19(6.8,-6) V20(7.6,-6) W1(-7.6,-6.8) W2(-6.8,-6.8) W3(-6,-6.8) W4(-5.2,-6.8) W5(-4.4,-6.8) W6(-3.6,-6.8) W7(-2.8,-6.8) W8(-2,-6.8) W9(-1.2,-6.8) W10(-0.4,-6.8) W11(0.4,-6.8) W12(1.2,-6.8) W13(2,-6.8) W14(2.8,-6.8) W15(3.6,-6.8) W16(4.4,-6.8) W17(5.2,-6.8) W18(6,-6.8) W19(6.8,-6.8) W20(7.6,-6.8) Y1(-7.6,-7.6) Y2(-6.8,-7.6) Y3(-6,-7.6) Y4(-5.2,-7.6) Y5(-4.4,-7.6) Y6(-3.6,-7.6) Y7(-2.8,-7.6) Y8(-2,-7.6) Y9(-1.2,-7.6) Y10(-0.4,-7.6) Y11(0.4,-7.6) Y12(1.2,-7.6) Y13(2,-7.6) Y14(2.8,-7.6) Y15(3.6,-7.6) Y16(4.4,-7.6) Y17(5.2,-7.6) Y18(6,-7.6) Y19(6.8,-7.6) Y20(7.6,-7.6)
TopOverlay:
  circle w0.25: c-9.15,8.35 r0.125
  region: -7.584,8.5 -8.5,7.584 -8.5,8.5
  lines w0.2: -8.5,7.584 -7.584,8.5 ; -8.5,-8.5 8.5,-8.5 8.5,8.5 -8.5,8.5 -8.5,-8.5
Mechanical13:
  lines w0.1: -8.5,-8.5 8.5,-8.5 8.5,8.5 -8.5,8.5 -8.5,-8.5
Mechanical15:
  lines w0.05: -9,-9 9,-9 9,9 -9,9 -9,-9
  lines w0.1: -0.5,0 0.5,0 ; 0,-0.5 0,0.5
3D body: height 1.6, standoff 0.35, extent -8.5,-8.5 8.5,8.5

## BGA80_453_S19 [mm] "BGA-453 0.8mm pitch, 23X23, 19x19x1.4mm"
height 1.4
pads (453):
  round 0.4 smd mask+0.075: A1(-8.8,8.8) A2(-8,8.8) A3(-7.2,8.8) A4(-6.4,8.8) A5(-5.6,8.8) A6(-4.8,8.8) A7(-4,8.8) A8(-3.2,8.8) A10(-1.6,8.8) A11(-0.8,8.8) A13(0.8,8.8) A14(1.6,8.8) A16(3.2,8.8) A17(4,8.8) A19(5.6,8.8) A20(6.4,8.8) A22(8,8.8) A23(8.8,8.8) AA1(-8.8,-7.2) AA2(-8,-7.2) AA3(-7.2,-7.2) AA4(-6.4,-7.2) AA5(-5.6,-7.2) AA6(-4.8,-7.2) AA7(-4,-7.2) AA8(-3.2,-7.2) AA9(-2.4,-7.2) AA10(-1.6,-7.2) AA11(-0.8,-7.2) AA12(0,-7.2) AA13(0.8,-7.2) AA14(1.6,-7.2) AA15(2.4,-7.2) AA16(3.2,-7.2) AA17(4,-7.2) AA18(4.8,-7.2) AA19(5.6,-7.2) AA20(6.4,-7.2) AA21(7.2,-7.2) AA22(8,-7.2) AB1(-8.8,-8) AB2(-8,-8) AB3(-7.2,-8) AB4(-6.4,-8) AB5(-5.6,-8) AB6(-4.8,-8) AB7(-4,-8) AB8(-3.2,-8) AB9(-2.4,-8) AB10(-1.6,-8) AB11(-0.8,-8) AB12(0,-8) AB13(0.8,-8) AB14(1.6,-8) AB15(2.4,-8) AB16(3.2,-8) AB17(4,-8) AB18(4.8,-8) AB19(5.6,-8) AB20(6.4,-8) AB21(7.2,-8) AB22(8,-8) AB23(8.8,-8) AC1(-8.8,-8.8) AC2(-8,-8.8) AC5(-5.6,-8.8) AC7(-4,-8.8) AC8(-3.2,-8.8) AC10(-1.6,-8.8) AC11(-0.8,-8.8) AC13(0.8,-8.8) AC14(1.6,-8.8) AC16(3.2,-8.8) AC17(4,-8.8) AC19(5.6,-8.8) AC20(6.4,-8.8) AC22(8,-8.8) AC23(8.8,-8.8) B1(-8.8,8) B2(-8,8) B3(-7.2,8) B4(-6.4,8) B5(-5.6,8) B6(-4.8,8) B7(-4,8) B8(-3.2,8) B9(-2.4,8) B10(-1.6,8) B11(-0.8,8) B12(0,8) B13(0.8,8) B14(1.6,8) B15(2.4,8) B16(3.2,8) B17(4,8) B18(4.8,8) B19(5.6,8) B20(6.4,8) B21(7.2,8) B22(8,8) B23(8.8,8) C2(-8,7.2) C3(-7.2,7.2) C4(-6.4,7.2) C5(-5.6,7.2) C6(-4.8,7.2) C7(-4,7.2) C8(-3.2,7.2) C9(-2.4,7.2) C10(-1.6,7.2) C11(-0.8,7.2) C12(0,7.2) C13(0.8,7.2) C14(1.6,7.2) C15(2.4,7.2) C16(3.2,7.2) C17(4,7.2) C18(4.8,7.2) C19(5.6,7.2) C20(6.4,7.2) C21(7.2,7.2) C22(8,7.2) D1(-8.8,6.4) D2(-8,6.4) D3(-7.2,6.4) D5(-5.6,6.4) D6(-4.8,6.4) D7(-4,6.4) D8(-3.2,6.4) D10(-1.6,6.4) D11(-0.8,6.4) D13(0.8,6.4) D14(1.6,6.4) D16(3.2,6.4) D17(4,6.4) D18(4.8,6.4) D19(5.6,6.4) D20(6.4,6.4) D21(7.2,6.4) D22(8,6.4) D23(8.8,6.4) E1(-8.8,5.6) E2(-8,5.6) E3(-7.2,5.6) E4(-6.4,5.6) E6(-4.8,5.6) E7(-4,5.6) E8(-3.2,5.6) E10(-1.6,5.6) E11(-0.8,5.6) E13(0.8,5.6) E14(1.6,5.6) E16(3.2,5.6) E17(4,5.6) E18(4.8,5.6) E20(6.4,5.6) E21(7.2,5.6) E22(8,5.6) E23(8.8,5.6) F2(-8,4.8) F3(-7.2,4.8) F4(-6.4,4.8) F5(-5.6,4.8) F7(-4,4.8) F8(-3.2,4.8) F10(-1.6,4.8) F11(-0.8,4.8) F13(0.8,4.8) F14(1.6,4.8) F16(3.2,4.8) F17(4,4.8) F19(5.6,4.8) F20(6.4,4.8) F21(7.2,4.8) F22(8,4.8) G1(-8.8,4) G2(-8,4) G3(-7.2,4) G4(-6.4,4) G5(-5.6,4) G6(-4.8,4) G8(-3.2,4) G9(-2.4,4) G10(-1.6,4) G11(-0.8,4) G12(0,4) G13(0.8,4) G14(1.6,4) G15(2.4,4) G16(3.2,4) G18(4.8,4) G19(5.6,4) G20(6.4,4) G21(7.2,4) G22(8,4) G23(8.8,4) H1(-8.8,3.2) H2(-8,3.2) H3(-7.2,3.2) H4(-6.4,3.2) H5(-5.6,3.2) H6(-4.8,3.2) H7(-4,3.2) H8(-3.2,3.2) H9(-2.4,3.2) H10(-1.6,3.2) H11(-0.8,3.2) H12(0,3.2) H13(0.8,3.2) H14(1.6,3.2) H15(2.4,3.2) H16(3.2,3.2) H17(4,3.2) H18(4.8,3.2) H19(5.6,3.2) H20(6.4,3.2) H21(7.2,3.2) H22(8,3.2) H23(8.8,3.2) J2(-8,2.4) J3(-7.2,2.4) J7(-4,2.4) J8(-3.2,2.4) J9(-2.4,2.4) J10(-1.6,2.4) J11(-0.8,2.4) J12(0,2.4) J13(0.8,2.4) J14(1.6,2.4) J15(2.4,2.4) J16(3.2,2.4) J17(4,2.4) J21(7.2,2.4) J22(8,2.4) K1(-8.8,1.6) K2(-8,1.6) K3(-7.2,1.6) K4(-6.4,1.6) K5(-5.6,1.6) K6(-4.8,1.6) K7(-4,1.6) K8(-3.2,1.6) K9(-2.4,1.6) K10(-1.6,1.6) K11(-0.8,1.6) K12(0,1.6) K13(0.8,1.6) K14(1.6,1.6) K15(2.4,1.6) K16(3.2,1.6) K17(4,1.6) K18(4.8,1.6) K19(5.6,1.6) K20(6.4,1.6) K21(7.2,1.6) K22(8,1.6) K23(8.8,1.6) L1(-8.8,0.8) L2(-8,0.8) L3(-7.2,0.8) L4(-6.4,0.8) L5(-5.6,0.8) L6(-4.8,0.8) L7(-4,0.8) L8(-3.2,0.8) L9(-2.4,0.8) L10(-1.6,0.8) L11(-0.8,0.8) L12(0,0.8) L13(0.8,0.8) L14(1.6,0.8) L15(2.4,0.8) L16(3.2,0.8) L17(4,0.8) L18(4.8,0.8) L19(5.6,0.8) L20(6.4,0.8) L21(7.2,0.8) L22(8,0.8) L23(8.8,0.8) M2(-8,0) M3(-7.2,0) M7(-4,0) M8(-3.2,0) M9(-2.4,0) M10(-1.6,0) M11(-0.8,0) M12(0,0) M13(0.8,0) M14(1.6,0) M15(2.4,0) M16(3.2,0) M17(4,0) M21(7.2,0) M22(8,0) N1(-8.8,-0.8) N2(-8,-0.8) N3(-7.2,-0.8) N4(-6.4,-0.8) N5(-5.6,-0.8) N6(-4.8,-0.8) N7(-4,-0.8) N8(-3.2,-0.8) N9(-2.4,-0.8) N10(-1.6,-0.8) N11(-0.8,-0.8) N12(0,-0.8) N13(0.8,-0.8) N14(1.6,-0.8) N15(2.4,-0.8) N16(3.2,-0.8) N17(4,-0.8) N18(4.8,-0.8) N19(5.6,-0.8) N20(6.4,-0.8) N21(7.2,-0.8) N22(8,-0.8) N23(8.8,-0.8) P1(-8.8,-1.6) P2(-8,-1.6) P3(-7.2,-1.6) P4(-6.4,-1.6) P5(-5.6,-1.6) P6(-4.8,-1.6) P7(-4,-1.6) P8(-3.2,-1.6) P9(-2.4,-1.6) P10(-1.6,-1.6) P11(-0.8,-1.6) P12(0,-1.6) P13(0.8,-1.6) P14(1.6,-1.6) P15(2.4,-1.6) P16(3.2,-1.6) P17(4,-1.6) P18(4.8,-1.6) P19(5.6,-1.6) P20(6.4,-1.6) P21(7.2,-1.6) P23(8.8,-1.6) R2(-8,-2.4) R3(-7.2,-2.4) R7(-4,-2.4) R8(-3.2,-2.4) R9(-2.4,-2.4) R10(-1.6,-2.4) R11(-0.8,-2.4) R12(0,-2.4) R13(0.8,-2.4) R14(1.6,-2.4) R15(2.4,-2.4) R16(3.2,-2.4) R17(4,-2.4) R21(7.2,-2.4) R22(8,-2.4) T1(-8.8,-3.2) T2(-8,-3.2) T3(-7.2,-3.2) T4(-6.4,-3.2) T5(-5.6,-3.2) T6(-4.8,-3.2) T7(-4,-3.2) T8(-3.2,-3.2) T9(-2.4,-3.2) T10(-1.6,-3.2) T11(-0.8,-3.2) T12(0,-3.2) T13(0.8,-3.2) T14(1.6,-3.2) T15(2.4,-3.2) T16(3.2,-3.2) T17(4,-3.2) T18(4.8,-3.2) T19(5.6,-3.2) T20(6.4,-3.2) T21(7.2,-3.2) T22(8,-3.2) T23(8.8,-3.2) U1(-8.8,-4) U2(-8,-4) U3(-7.2,-4) U4(-6.4,-4) U5(-5.6,-4) U6(-4.8,-4) U8(-3.2,-4) U9(-2.4,-4) U10(-1.6,-4) U11(-0.8,-4) U12(0,-4) U13(0.8,-4) U14(1.6,-4) U15(2.4,-4) U16(3.2,-4) U18(4.8,-4) U19(5.6,-4) U20(6.4,-4) U21(7.2,-4) U22(8,-4) U23(8.8,-4) V2(-8,-4.8) V3(-7.2,-4.8) V4(-6.4,-4.8) V5(-5.6,-4.8) V7(-4,-4.8) V8(-3.2,-4.8) V10(-1.6,-4.8) V11(-0.8,-4.8) V13(0.8,-4.8) V14(1.6,-4.8) V16(3.2,-4.8) V17(4,-4.8) V19(5.6,-4.8) V20(6.4,-4.8) V21(7.2,-4.8) V22(8,-4.8) W1(-8.8,-5.6) W2(-8,-5.6) W3(-7.2,-5.6) W4(-6.4,-5.6) W6(-4.8,-5.6) W7(-4,-5.6) W8(-3.2,-5.6) W10(-1.6,-5.6) W11(-0.8,-5.6) W13(0.8,-5.6) W14(1.6,-5.6) W16(3.2,-5.6) W17(4,-5.6) W18(4.8,-5.6) W20(6.4,-5.6) W21(7.2,-5.6) W22(8,-5.6) W23(8.8,-5.6) Y1(-8.8,-6.4) Y2(-8,-6.4) Y3(-7.2,-6.4) Y4(-6.4,-6.4) Y5(-5.6,-6.4) Y6(-4.8,-6.4) Y7(-4,-6.4) Y8(-3.2,-6.4) Y10(-1.6,-6.4) Y11(-0.8,-6.4) Y13(0.8,-6.4) Y14(1.6,-6.4) Y16(3.2,-6.4) Y17(4,-6.4) Y18(4.8,-6.4) Y19(5.6,-6.4) Y20(6.4,-6.4) Y21(7.2,-6.4) Y22(8,-6.4) Y23(8.8,-6.4)
TopOverlay:
  circle w0.2: c-10.1,9.2 r0.2
  region: -9.5,9.5 -8.8,9.5 -9.5,8.8
  lines w0.2: -9.5,8.8 -9.5,9.5 -8.8,9.5 ; -9.5,8.8 -9.5,-9.5 9.5,-9.5 9.5,9.5 -8.8,9.5 ; -9.5,8.8 -8.8,9.5
Mechanical13:
  lines w0.1: -9.5,4.725 -4.725,9.5 ; -9.5,-9.5 9.5,-9.5 9.5,9.5 -9.5,9.5 -9.5,-9.5
Mechanical15:
  lines w0.05: -10.55,-10.55 10.55,-10.55 10.55,10.55 -10.55,10.55 -10.55,-10.55
3D body "RK3368.stp": height 1.4, standoff 0, extent -9.5,-9.5 9.5,9.5

## BGA80_484_S19 [mm] "BGA, 484-Leads, Body 19.0x19.0mm,  Pitch 0.80mm"
height 1.5
pads (484):
  round 0.45 smd: A1(-8.4,8.4) A2(-7.6,8.4) A3(-6.8,8.4) A4(-6,8.4) A5(-5.2,8.4) A6(-4.4,8.4) A7(-3.6,8.4) A8(-2.8,8.4) A9(-2,8.4) A10(-1.2,8.4) A11(-0.4,8.4) A12(0.4,8.4) A13(1.2,8.4) A14(2,8.4) A15(2.8,8.4) A16(3.6,8.4) A17(4.4,8.4) A18(5.2,8.4) A19(6,8.4) A20(6.8,8.4) A21(7.6,8.4) A22(8.4,8.4) AA1(-8.4,-7.6) AA2(-7.6,-7.6) AA3(-6.8,-7.6) AA4(-6,-7.6) AA5(-5.2,-7.6) AA6(-4.4,-7.6) AA7(-3.6,-7.6) AA8(-2.8,-7.6) AA9(-2,-7.6) AA10(-1.2,-7.6) AA11(-0.4,-7.6) AA12(0.4,-7.6) AA13(1.2,-7.6) AA14(2,-7.6) AA15(2.8,-7.6) AA16(3.6,-7.6) AA17(4.4,-7.6) AA18(5.2,-7.6) AA19(6,-7.6) AA20(6.8,-7.6) AA21(7.6,-7.6) AA22(8.4,-7.6) AB1(-8.4,-8.4) AB2(-7.6,-8.4) AB3(-6.8,-8.4) AB4(-6,-8.4) AB5(-5.2,-8.4) AB6(-4.4,-8.4) AB7(-3.6,-8.4) AB8(-2.8,-8.4) AB9(-2,-8.4) AB10(-1.2,-8.4) AB11(-0.4,-8.4) AB12(0.4,-8.4) AB13(1.2,-8.4) AB14(2,-8.4) AB15(2.8,-8.4) AB16(3.6,-8.4) AB17(4.4,-8.4) AB18(5.2,-8.4) AB19(6,-8.4) AB20(6.8,-8.4) AB21(7.6,-8.4) AB22(8.4,-8.4) B1(-8.4,7.6) B2(-7.6,7.6) B3(-6.8,7.6) B4(-6,7.6) B5(-5.2,7.6) B6(-4.4,7.6) B7(-3.6,7.6) B8(-2.8,7.6) B9(-2,7.6) B10(-1.2,7.6) B11(-0.4,7.6) B12(0.4,7.6) B13(1.2,7.6) B14(2,7.6) B15(2.8,7.6) B16(3.6,7.6) B17(4.4,7.6) B18(5.2,7.6) B19(6,7.6) B20(6.8,7.6) B21(7.6,7.6) B22(8.4,7.6) C1(-8.4,6.8) C2(-7.6,6.8) C3(-6.8,6.8) C4(-6,6.8) C5(-5.2,6.8) C6(-4.4,6.8) C7(-3.6,6.8) C8(-2.8,6.8) C9(-2,6.8) C10(-1.2,6.8) C11(-0.4,6.8) C12(0.4,6.8) C13(1.2,6.8) C14(2,6.8) C15(2.8,6.8) C16(3.6,6.8) C17(4.4,6.8) C18(5.2,6.8) C19(6,6.8) C20(6.8,6.8) C21(7.6,6.8) C22(8.4,6.8) D1(-8.4,6) D2(-7.6,6) D3(-6.8,6) D4(-6,6) D5(-5.2,6) D6(-4.4,6) D7(-3.6,6) D8(-2.8,6) D9(-2,6) D10(-1.2,6) D11(-0.4,6) D12(0.4,6) D13(1.2,6) D14(2,6) D15(2.8,6) D16(3.6,6) D17(4.4,6) D18(5.2,6) D19(6,6) D20(6.8,6) D21(7.6,6) D22(8.4,6) E1(-8.4,5.2) E2(-7.6,5.2) E3(-6.8,5.2) E4(-6,5.2) E5(-5.2,5.2) E6(-4.4,5.2) E7(-3.6,5.2) E8(-2.8,5.2) E9(-2,5.2) E10(-1.2,5.2) E11(-0.4,5.2) E12(0.4,5.2) E13(1.2,5.2) E14(2,5.2) E15(2.8,5.2) E16(3.6,5.2) E17(4.4,5.2) E18(5.2,5.2) E19(6,5.2) E20(6.8,5.2) E21(7.6,5.2) E22(8.4,5.2) F1(-8.4,4.4) F2(-7.6,4.4) F3(-6.8,4.4) F4(-6,4.4) F5(-5.2,4.4) F6(-4.4,4.4) F7(-3.6,4.4) F8(-2.8,4.4) F9(-2,4.4) F10(-1.2,4.4) F11(-0.4,4.4) F12(0.4,4.4) F13(1.2,4.4) F14(2,4.4) F15(2.8,4.4) F16(3.6,4.4) F17(4.4,4.4) F18(5.2,4.4) F19(6,4.4) F20(6.8,4.4) F21(7.6,4.4) F22(8.4,4.4) G1(-8.4,3.6) G2(-7.6,3.6) G3(-6.8,3.6) G4(-6,3.6) G5(-5.2,3.6) G6(-4.4,3.6) G7(-3.6,3.6) G8(-2.8,3.6) G9(-2,3.6) G10(-1.2,3.6) G11(-0.4,3.6) G12(0.4,3.6) G13(1.2,3.6) G14(2,3.6) G15(2.8,3.6) G16(3.6,3.6) G17(4.4,3.6) G18(5.2,3.6) G19(6,3.6) G20(6.8,3.6) G21(7.6,3.6) G22(8.4,3.6) H1(-8.4,2.8) H2(-7.6,2.8) H3(-6.8,2.8) H4(-6,2.8) H5(-5.2,2.8) H6(-4.4,2.8) H7(-3.6,2.8) H8(-2.8,2.8) H9(-2,2.8) H10(-1.2,2.8) H11(-0.4,2.8) H12(0.4,2.8) H13(1.2,2.8) H14(2,2.8) H15(2.8,2.8) H16(3.6,2.8) H17(4.4,2.8) H18(5.2,2.8) H19(6,2.8) H20(6.8,2.8) H21(7.6,2.8) H22(8.4,2.8) J1(-8.4,2) J2(-7.6,2) J3(-6.8,2) J4(-6,2) J5(-5.2,2) J6(-4.4,2) J7(-3.6,2) J8(-2.8,2) J9(-2,2) J10(-1.2,2) J11(-0.4,2) J12(0.4,2) J13(1.2,2) J14(2,2) J15(2.8,2) J16(3.6,2) J17(4.4,2) J18(5.2,2) J19(6,2) J20(6.8,2) J21(7.6,2) J22(8.4,2) K1(-8.4,1.2) K2(-7.6,1.2) K3(-6.8,1.2) K4(-6,1.2) K5(-5.2,1.2) K6(-4.4,1.2) K7(-3.6,1.2) K8(-2.8,1.2) K9(-2,1.2) K10(-1.2,1.2) K11(-0.4,1.2) K12(0.4,1.2) K13(1.2,1.2) K14(2,1.2) K15(2.8,1.2) K16(3.6,1.2) K17(4.4,1.2) K18(5.2,1.2) K19(6,1.2) K20(6.8,1.2) K21(7.6,1.2) K22(8.4,1.2) L1(-8.4,0.4) L2(-7.6,0.4) L3(-6.8,0.4) L4(-6,0.4) L5(-5.2,0.4) L6(-4.4,0.4) L7(-3.6,0.4) L8(-2.8,0.4) L9(-2,0.4) L10(-1.2,0.4) L11(-0.4,0.4) L12(0.4,0.4) L13(1.2,0.4) L14(2,0.4) L15(2.8,0.4) L16(3.6,0.4) L17(4.4,0.4) L18(5.2,0.4) L19(6,0.4) L20(6.8,0.4) L21(7.6,0.4) L22(8.4,0.4) M1(-8.4,-0.4) M2(-7.6,-0.4) M3(-6.8,-0.4) M4(-6,-0.4) M5(-5.2,-0.4) M6(-4.4,-0.4) M7(-3.6,-0.4) M8(-2.8,-0.4) M9(-2,-0.4) M10(-1.2,-0.4) M11(-0.4,-0.4) M12(0.4,-0.4) M13(1.2,-0.4) M14(2,-0.4) M15(2.8,-0.4) M16(3.6,-0.4) M17(4.4,-0.4) M18(5.2,-0.4) M19(6,-0.4) M20(6.8,-0.4) M21(7.6,-0.4) M22(8.4,-0.4) N1(-8.4,-1.2) N2(-7.6,-1.2) N3(-6.8,-1.2) N4(-6,-1.2) N5(-5.2,-1.2) N6(-4.4,-1.2) N7(-3.6,-1.2) N8(-2.8,-1.2) N9(-2,-1.2) N10(-1.2,-1.2) N11(-0.4,-1.2) N12(0.4,-1.2) N13(1.2,-1.2) N14(2,-1.2) N15(2.8,-1.2) N16(3.6,-1.2) N17(4.4,-1.2) N18(5.2,-1.2) N19(6,-1.2) N20(6.8,-1.2) N21(7.6,-1.2) N22(8.4,-1.2) P1(-8.4,-2) P2(-7.6,-2) P3(-6.8,-2) P4(-6,-2) P5(-5.2,-2) P6(-4.4,-2) P7(-3.6,-2) P8(-2.8,-2) P9(-2,-2) P10(-1.2,-2) P11(-0.4,-2) P12(0.4,-2) P13(1.2,-2) P14(2,-2) P15(2.8,-2) P16(3.6,-2) P17(4.4,-2) P18(5.2,-2) P19(6,-2) P20(6.8,-2) P21(7.6,-2) P22(8.4,-2) R1(-8.4,-2.8) R2(-7.6,-2.8) R3(-6.8,-2.8) R4(-6,-2.8) R5(-5.2,-2.8) R6(-4.4,-2.8) R7(-3.6,-2.8) R8(-2.8,-2.8) R9(-2,-2.8) R10(-1.2,-2.8) R11(-0.4,-2.8) R12(0.4,-2.8) R13(1.2,-2.8) R14(2,-2.8) R15(2.8,-2.8) R16(3.6,-2.8) R17(4.4,-2.8) R18(5.2,-2.8) R19(6,-2.8) R20(6.8,-2.8) R21(7.6,-2.8) R22(8.4,-2.8) T1(-8.4,-3.6) T2(-7.6,-3.6) T3(-6.8,-3.6) T4(-6,-3.6) T5(-5.2,-3.6) T6(-4.4,-3.6) T7(-3.6,-3.6) T8(-2.8,-3.6) T9(-2,-3.6) T10(-1.2,-3.6) T11(-0.4,-3.6) T12(0.4,-3.6) T13(1.2,-3.6) T14(2,-3.6) T15(2.8,-3.6) T16(3.6,-3.6) T17(4.4,-3.6) T18(5.2,-3.6) T19(6,-3.6) T20(6.8,-3.6) T21(7.6,-3.6) T22(8.4,-3.6) U1(-8.4,-4.4) U2(-7.6,-4.4) U3(-6.8,-4.4) U4(-6,-4.4) U5(-5.2,-4.4) U6(-4.4,-4.4) U7(-3.6,-4.4) U8(-2.8,-4.4) U9(-2,-4.4) U10(-1.2,-4.4) U11(-0.4,-4.4) U12(0.4,-4.4) U13(1.2,-4.4) U14(2,-4.4) U15(2.8,-4.4) U16(3.6,-4.4) U17(4.4,-4.4) U18(5.2,-4.4) U19(6,-4.4) U20(6.8,-4.4) U21(7.6,-4.4) U22(8.4,-4.4) V1(-8.4,-5.2) V2(-7.6,-5.2) V3(-6.8,-5.2) V4(-6,-5.2) V5(-5.2,-5.2) V6(-4.4,-5.2) V7(-3.6,-5.2) V8(-2.8,-5.2) V9(-2,-5.2) V10(-1.2,-5.2) V11(-0.4,-5.2) V12(0.4,-5.2) V13(1.2,-5.2) V14(2,-5.2) V15(2.8,-5.2) V16(3.6,-5.2) V17(4.4,-5.2) V18(5.2,-5.2) V19(6,-5.2) V20(6.8,-5.2) V21(7.6,-5.2) V22(8.4,-5.2) W1(-8.4,-6) W2(-7.6,-6) W3(-6.8,-6) W4(-6,-6) W5(-5.2,-6) W6(-4.4,-6) W7(-3.6,-6) W8(-2.8,-6) W9(-2,-6) W10(-1.2,-6) W11(-0.4,-6) W12(0.4,-6) W13(1.2,-6) W14(2,-6) W15(2.8,-6) W16(3.6,-6) W17(4.4,-6) W18(5.2,-6) W19(6,-6) W20(6.8,-6) W21(7.6,-6) W22(8.4,-6) Y1(-8.4,-6.8) Y2(-7.6,-6.8) Y3(-6.8,-6.8) Y4(-6,-6.8) Y5(-5.2,-6.8) Y6(-4.4,-6.8) Y7(-3.6,-6.8) Y8(-2.8,-6.8) Y9(-2,-6.8) Y10(-1.2,-6.8) Y11(-0.4,-6.8) Y12(0.4,-6.8) Y13(1.2,-6.8) Y14(2,-6.8) Y15(2.8,-6.8) Y16(3.6,-6.8) Y17(4.4,-6.8) Y18(5.2,-6.8) Y19(6,-6.8) Y20(6.8,-6.8) Y21(7.6,-6.8) Y22(8.4,-6.8)
TopOverlay:
  circle w0.2: c-10.15,9.3 r0.2
  region: -8.6,9.6 -9.6,8.6 -9.6,9.6
  lines w0.2: -9.6,8.6 -8.6,9.6 ; -9.6,-9.6 9.6,-9.6 9.6,9.6 -9.6,9.6 -9.6,-9.6
Mechanical13:
  lines w0.1: -9.5,-9.5 9.5,-9.5 9.5,9.5 -9.5,9.5 -9.5,-9.5
3D body: height 1.5, standoff 0.35, extent -9.5,-9.5 9.5,9.5

## BGA80_529_S19 [mm]
height 1.9
pads (529):
  round 0.45 smd mask+0: A1(-8.8,8.8) A2(-8,8.8) A3(-7.2,8.8) A4(-6.4,8.8) A5(-5.6,8.8) A6(-4.8,8.8) A7(-4,8.8) A8(-3.2,8.8) A9(-2.4,8.8) A10(-1.6,8.8) A11(-0.8,8.8) A12(0,8.8) A13(0.8,8.8) A14(1.6,8.8) A15(2.4,8.8) A16(3.2,8.8) A17(4,8.8) A18(4.8,8.8) A19(5.6,8.8) A20(6.4,8.8) A21(7.2,8.8) A22(8,8.8) A23(8.8,8.8) AA1(-8.8,-7.2) AA2(-8,-7.2) AA3(-7.2,-7.2) AA4(-6.4,-7.2) AA5(-5.6,-7.2) AA6(-4.8,-7.2) AA7(-4,-7.2) AA8(-3.2,-7.2) AA9(-2.4,-7.2) AA10(-1.6,-7.2) AA11(-0.8,-7.2) AA12(0,-7.2) AA13(0.8,-7.2) AA14(1.6,-7.2) AA15(2.4,-7.2) AA16(3.2,-7.2) AA17(4,-7.2) AA18(4.8,-7.2) AA19(5.6,-7.2) AA20(6.4,-7.2) AA21(7.2,-7.2) AA22(8,-7.2) AA23(8.8,-7.2) AB1(-8.8,-8) AB2(-8,-8) AB3(-7.2,-8) AB4(-6.4,-8) AB5(-5.6,-8) AB6(-4.8,-8) AB7(-4,-8) AB8(-3.2,-8) AB9(-2.4,-8) AB10(-1.6,-8) AB11(-0.8,-8) AB12(0,-8) AB13(0.8,-8) AB14(1.6,-8) AB15(2.4,-8) AB16(3.2,-8) AB17(4,-8) AB18(4.8,-8) AB19(5.6,-8) AB20(6.4,-8) AB21(7.2,-8) AB22(8,-8) AB23(8.8,-8) AC1(-8.8,-8.8) AC2(-8,-8.8) AC3(-7.2,-8.8) AC4(-6.4,-8.8) AC5(-5.6,-8.8) AC6(-4.8,-8.8) AC7(-4,-8.8) AC8(-3.2,-8.8) AC9(-2.4,-8.8) AC10(-1.6,-8.8) AC11(-0.8,-8.8) AC12(0,-8.8) AC13(0.8,-8.8) AC14(1.6,-8.8) AC15(2.4,-8.8) AC16(3.2,-8.8) AC17(4,-8.8) AC18(4.8,-8.8) AC19(5.6,-8.8) AC20(6.4,-8.8) AC21(7.2,-8.8) AC22(8,-8.8) AC23(8.8,-8.8) B1(-8.8,8) B2(-8,8) B3(-7.2,8) B4(-6.4,8) B5(-5.6,8) B6(-4.8,8) B7(-4,8) B8(-3.2,8) B9(-2.4,8) B10(-1.6,8) B11(-0.8,8) B12(0,8) B13(0.8,8) B14(1.6,8) B15(2.4,8) B16(3.2,8) B17(4,8) B18(4.8,8) B19(5.6,8) B20(6.4,8) B21(7.2,8) B22(8,8) B23(8.8,8) C1(-8.8,7.2) C2(-8,7.2) C3(-7.2,7.2) C4(-6.4,7.2) C5(-5.6,7.2) C6(-4.8,7.2) C7(-4,7.2) C8(-3.2,7.2) C9(-2.4,7.2) C10(-1.6,7.2) C11(-0.8,7.2) C12(0,7.2) C13(0.8,7.2) C14(1.6,7.2) C15(2.4,7.2) C16(3.2,7.2) C17(4,7.2) C18(4.8,7.2) C19(5.6,7.2) C20(6.4,7.2) C21(7.2,7.2) C22(8,7.2) C23(8.8,7.2) D1(-8.8,6.4) D2(-8,6.4) D3(-7.2,6.4) D4(-6.4,6.4) D5(-5.6,6.4) D6(-4.8,6.4) D7(-4,6.4) D8(-3.2,6.4) D9(-2.4,6.4) D10(-1.6,6.4) D11(-0.8,6.4) D12(0,6.4) D13(0.8,6.4) D14(1.6,6.4) D15(2.4,6.4) D16(3.2,6.4) D17(4,6.4) D18(4.8,6.4) D19(5.6,6.4) D20(6.4,6.4) D21(7.2,6.4) D22(8,6.4) D23(8.8,6.4) E1(-8.8,5.6) E2(-8,5.6) E3(-7.2,5.6) E4(-6.4,5.6) E5(-5.6,5.6) E6(-4.8,5.6) E7(-4,5.6) E8(-3.2,5.6) E9(-2.4,5.6) E10(-1.6,5.6) E11(-0.8,5.6) E12(0,5.6) E13(0.8,5.6) E14(1.6,5.6) E15(2.4,5.6) E16(3.2,5.6) E17(4,5.6) E18(4.8,5.6) E19(5.6,5.6) E20(6.4,5.6) E21(7.2,5.6) E22(8,5.6) E23(8.8,5.6) F1(-8.8,4.8) F2(-8,4.8) F3(-7.2,4.8) F4(-6.4,4.8) F5(-5.6,4.8) F6(-4.8,4.8) F7(-4,4.8) F8(-3.2,4.8) F9(-2.4,4.8) F10(-1.6,4.8) F11(-0.8,4.8) F12(0,4.8) F13(0.8,4.8) F14(1.6,4.8) F15(2.4,4.8) F16(3.2,4.8) F17(4,4.8) F18(4.8,4.8) F19(5.6,4.8) F20(6.4,4.8) F21(7.2,4.8) F22(8,4.8) F23(8.8,4.8) G1(-8.8,4) G2(-8,4) G3(-7.2,4) G4(-6.4,4) G5(-5.6,4) G6(-4.8,4) G7(-4,4) G8(-3.2,4) G9(-2.4,4) G10(-1.6,4) G11(-0.8,4) G12(0,4) G13(0.8,4) G14(1.6,4) G15(2.4,4) G16(3.2,4) G17(4,4) G18(4.8,4) G19(5.6,4) G20(6.4,4) G21(7.2,4) G22(8,4) G23(8.8,4) H1(-8.8,3.2) H2(-8,3.2) H3(-7.2,3.2) H4(-6.4,3.2) H5(-5.6,3.2) H6(-4.8,3.2) H7(-4,3.2) H8(-3.2,3.2) H9(-2.4,3.2) H10(-1.6,3.2) H11(-0.8,3.2) H12(0,3.2) H13(0.8,3.2) H14(1.6,3.2) H15(2.4,3.2) H16(3.2,3.2) H17(4,3.2) H18(4.8,3.2) H19(5.6,3.2) H20(6.4,3.2) H21(7.2,3.2) H22(8,3.2) H23(8.8,3.2) J1(-8.8,2.4) J2(-8,2.4) J3(-7.2,2.4) J4(-6.4,2.4) J5(-5.6,2.4) J6(-4.8,2.4) J7(-4,2.4) J8(-3.2,2.4) J9(-2.4,2.4) J10(-1.6,2.4) J11(-0.8,2.4) J12(0,2.4) J13(0.8,2.4) J14(1.6,2.4) J15(2.4,2.4) J16(3.2,2.4) J17(4,2.4) J18(4.8,2.4) J19(5.6,2.4) J20(6.4,2.4) J21(7.2,2.4) J22(8,2.4) J23(8.8,2.4) K1(-8.8,1.6) K2(-8,1.6) K3(-7.2,1.6) K4(-6.4,1.6) K5(-5.6,1.6) K6(-4.8,1.6) K7(-4,1.6) K8(-3.2,1.6) K9(-2.4,1.6) K10(-1.6,1.6) K11(-0.8,1.6) K12(0,1.6) K13(0.8,1.6) K14(1.6,1.6) K15(2.4,1.6) K16(3.2,1.6) K17(4,1.6) K18(4.8,1.6) K19(5.6,1.6) K20(6.4,1.6) K21(7.2,1.6) K22(8,1.6) K23(8.8,1.6) L1(-8.8,0.8) L2(-8,0.8) L3(-7.2,0.8) L4(-6.4,0.8) L5(-5.6,0.8) L6(-4.8,0.8) L7(-4,0.8) L8(-3.2,0.8) L9(-2.4,0.8) L10(-1.6,0.8) L11(-0.8,0.8) L12(0,0.8) L13(0.8,0.8) L14(1.6,0.8) L15(2.4,0.8) L16(3.2,0.8) L17(4,0.8) L18(4.8,0.8) L19(5.6,0.8) L20(6.4,0.8) L21(7.2,0.8) L22(8,0.8) L23(8.8,0.8) M1(-8.8,0) M2(-8,0) M3(-7.2,0) M4(-6.4,0) M5(-5.6,0) M6(-4.8,0) M7(-4,0) M8(-3.2,0) M9(-2.4,0) M10(-1.6,0) M11(-0.8,0) M12(0,0) M13(0.8,0) M14(1.6,0) M15(2.4,0) M16(3.2,0) M17(4,0) M18(4.8,0) M19(5.6,0) M20(6.4,0) M21(7.2,0) M22(8,0) M23(8.8,0) N1(-8.8,-0.8) N2(-8,-0.8) N3(-7.2,-0.8) N4(-6.4,-0.8) N5(-5.6,-0.8) N6(-4.8,-0.8) N7(-4,-0.8) N8(-3.2,-0.8) N9(-2.4,-0.8) N10(-1.6,-0.8) N11(-0.8,-0.8) N12(0,-0.8) N13(0.8,-0.8) N14(1.6,-0.8) N15(2.4,-0.8) N16(3.2,-0.8) N17(4,-0.8) N18(4.8,-0.8) N19(5.6,-0.8) N20(6.4,-0.8) N21(7.2,-0.8) N22(8,-0.8) N23(8.8,-0.8) P1(-8.8,-1.6) P2(-8,-1.6) P3(-7.2,-1.6) P4(-6.4,-1.6) P5(-5.6,-1.6) P6(-4.8,-1.6) P7(-4,-1.6) P8(-3.2,-1.6) P9(-2.4,-1.6) P10(-1.6,-1.6) P11(-0.8,-1.6) P12(0,-1.6) P13(0.8,-1.6) P14(1.6,-1.6) P15(2.4,-1.6) P16(3.2,-1.6) P17(4,-1.6) P18(4.8,-1.6) P19(5.6,-1.6) P20(6.4,-1.6) P21(7.2,-1.6) P22(8,-1.6) P23(8.8,-1.6) R1(-8.8,-2.4) R2(-8,-2.4) R3(-7.2,-2.4) R4(-6.4,-2.4) R5(-5.6,-2.4) R6(-4.8,-2.4) R7(-4,-2.4) R8(-3.2,-2.4) R9(-2.4,-2.4) R10(-1.6,-2.4) R11(-0.8,-2.4) R12(0,-2.4) R13(0.8,-2.4) R14(1.6,-2.4) R15(2.4,-2.4) R16(3.2,-2.4) R17(4,-2.4) R18(4.8,-2.4) R19(5.6,-2.4) R20(6.4,-2.4) R21(7.2,-2.4) R22(8,-2.4) R23(8.8,-2.4) T1(-8.8,-3.2) T2(-8,-3.2) T3(-7.2,-3.2) T4(-6.4,-3.2) T5(-5.6,-3.2) T6(-4.8,-3.2) T7(-4,-3.2) T8(-3.2,-3.2) T9(-2.4,-3.2) T10(-1.6,-3.2) T11(-0.8,-3.2) T12(0,-3.2) T13(0.8,-3.2) T14(1.6,-3.2) T15(2.4,-3.2) T16(3.2,-3.2) T17(4,-3.2) T18(4.8,-3.2) T19(5.6,-3.2) T20(6.4,-3.2) T21(7.2,-3.2) T22(8,-3.2) T23(8.8,-3.2) U1(-8.8,-4) U2(-8,-4) U3(-7.2,-4) U4(-6.4,-4) U5(-5.6,-4) U6(-4.8,-4) U7(-4,-4) U8(-3.2,-4) U9(-2.4,-4) U10(-1.6,-4) U11(-0.8,-4) U12(0,-4) U13(0.8,-4) U14(1.6,-4) U15(2.4,-4) U16(3.2,-4) U17(4,-4) U18(4.8,-4) U19(5.6,-4) U20(6.4,-4) U21(7.2,-4) U22(8,-4) U23(8.8,-4) V1(-8.8,-4.8) V2(-8,-4.8) V3(-7.2,-4.8) V4(-6.4,-4.8) V5(-5.6,-4.8) V6(-4.8,-4.8) V7(-4,-4.8) V8(-3.2,-4.8) V9(-2.4,-4.8) V10(-1.6,-4.8) V11(-0.8,-4.8) V12(0,-4.8) V13(0.8,-4.8) V14(1.6,-4.8) V15(2.4,-4.8) V16(3.2,-4.8) V17(4,-4.8) V18(4.8,-4.8) V19(5.6,-4.8) V20(6.4,-4.8) V21(7.2,-4.8) V22(8,-4.8) V23(8.8,-4.8) W1(-8.8,-5.6) W2(-8,-5.6) W3(-7.2,-5.6) W4(-6.4,-5.6) W5(-5.6,-5.6) W6(-4.8,-5.6) W7(-4,-5.6) W8(-3.2,-5.6) W9(-2.4,-5.6) W10(-1.6,-5.6) W11(-0.8,-5.6) W12(0,-5.6) W13(0.8,-5.6) W14(1.6,-5.6) W15(2.4,-5.6) W16(3.2,-5.6) W17(4,-5.6) W18(4.8,-5.6) W19(5.6,-5.6) W20(6.4,-5.6) W21(7.2,-5.6) W22(8,-5.6) W23(8.8,-5.6) Y1(-8.8,-6.4) Y2(-8,-6.4) Y3(-7.2,-6.4) Y4(-6.4,-6.4) Y5(-5.6,-6.4) Y6(-4.8,-6.4) Y7(-4,-6.4) Y8(-3.2,-6.4) Y9(-2.4,-6.4) Y10(-1.6,-6.4) Y11(-0.8,-6.4) Y12(0,-6.4) Y13(0.8,-6.4) Y14(1.6,-6.4) Y15(2.4,-6.4) Y16(3.2,-6.4) Y17(4,-6.4) Y18(4.8,-6.4) Y19(5.6,-6.4) Y20(6.4,-6.4) Y21(7.2,-6.4) Y22(8,-6.4) Y23(8.8,-6.4)
TopOverlay:
  circle w0.25: c-10.25,8.8 r0.125
  region: -8.884,9.6 -9.6,8.884 -9.6,9.6
  lines w0.2: -9.6,8.884 -8.884,9.6 ; -9.6,-9.6 -9.6,9.6 9.6,9.6 9.6,-9.6 -9.6,-9.6
Mechanical13:
  lines w0.1: -9.5,-9.5 -9.5,9.5 9.5,9.5 9.5,-9.5 -9.5,-9.5
3D body: height 1.9, standoff 0.2, extent -9.5,-9.5 9.5,9.5